# EAGLE library part 74*02 (library 74ttl-din)
Quad 2-input NOR gate
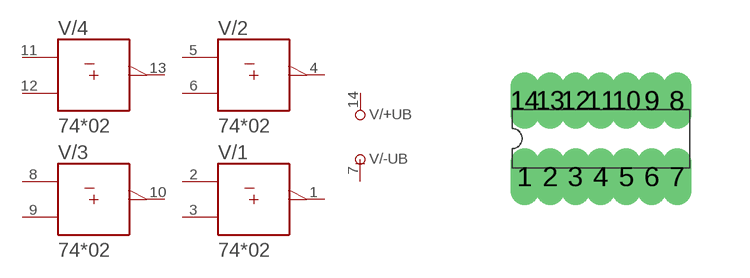
[diagram p3: symbol with the pads of DIL14; footprint DIL14]

Designator prefix V; gates /+UB=+UB /-UB=-UB /1=02 /2=02 /3=02 /4=02

## 7402N  [DIL14]
1  /1:Y  out
2  /1:A  in
3  /1:B  in
4  /2:Y  out
5  /2:A  in
6  /2:B  in
7  /-UB:-UB  pwr
8  /3:A  in
9  /3:B  in
10  /3:Y  out
11  /4:A  in
12  /4:B  in
13  /4:Y  out
14  /+UB:+UB  pwr

## Footprint DIL14 (pad centres in mm)
Dual In Line Package
drill 0.203 long: 1 -1.905,-0.953; 2 -1.27,-0.953; 3 -0.635,-0.953; 4 0,-0.953; 5 0.635,-0.953; 6 1.27,-0.953; 7 1.905,-0.953; 8 1.905,0.953; 9 1.27,0.953; 10 0.635,0.953; 11 0,0.953; 12 -0.635,0.953; 13 -1.27,0.953; 14 -1.905,0.953